# Altium schematic symbol library DisplayPort.SchLib: 1 symbol
Pins are listed as number, name and electrical type; pins without a type are passive.

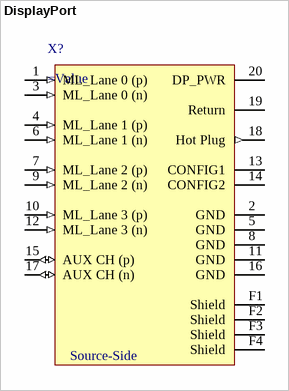
[diagram p0: symbol DisplayPort]

## DisplayPort
designator X?
pins: 1 ML_Lane 0 (p) (in) "Lane 0 (positive)", 2 GND (power) "Ground", 3 ML_Lane 0 (n) (in) "Lane 0 (negative)", 4 ML_Lane 1 (p) (in) "Lane 1 (positive)", 5 GND (power) "Ground", 6 ML_Lane 1 (n) (in) "Lane 1 (negative)", 7 ML_Lane 2 (p) (in) "Lane 2 (positive)", 8 GND (power) "Ground", 9 ML_Lane 2 (n) (in) "Lane 2 (negative)", 10 ML_Lane 3 (p) (in) "Lane 3 (positive)", 11 GND (power) "Ground", 12 ML_Lane 3 (n) (in) "Lane 3 (negative)", 13 CONFIG1 "connected to Ground1)", 14 CONFIG2 "connected to Ground1)", 15 AUX CH (p) (io) "Auxiliary Channel (positive)", 16 GND (power) "Ground", 17 AUX CH (n) (io) "Auxiliary Channe (negative)", 18 Hot Plug (out) "Hot Plug Detect", 19 Return (power) "Return for Power", 20 DP_PWR (power) "Power for connector (3.3 V 500 mA)", F1 Shield, F2 Shield, F3 Shield, F4 Shield
text: Source-Side